# EAGLE library part HFD3225 (library EW_sensors)
OPTO SENSOR DEVICE
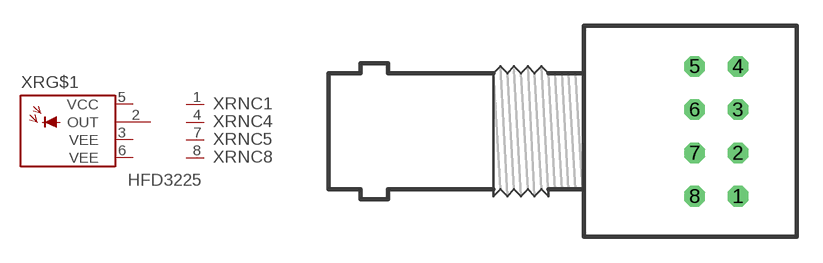
[diagram p36: symbol with the pads of STUNEF; footprint STUNEF]

Designator prefix XR; gates G$1=DET-CCEE-16 NC1=NC-29 NC4=NC-29 NC5=NC-29 NC8=NC-29

## HFD3225 (OC_FARNELL: unknown; OC_NEWARK: unknown)  [STUNEF]
1  NC1:NC  nc
2  G$1:OUT  out
3  G$1:VEE  pwr
4  NC4:NC  nc
5  G$1:VCC  pwr
6  G$1:VEE  pwr
7  NC5:NC  nc
8  NC8:NC  nc

## Footprint STUNEF (pad centres in mm)
OPTO SENSOR DEVICE
drill 0.7 octagon: 1 2.54,-3.81; 2 2.54,-1.27; 3 2.54,1.27; 4 2.54,3.81; 5 0,3.81; 6 0,1.27; 7 0,-1.27; 8 0,-3.81